# Altium footprint library QFN24-SPE-LTC3605.PcbLib: 1 footprints
Each footprint in its own frame and in the unit in brackets; x right, y up, seen from the top. Pads: shape width x height; smd on the part's side, far side on the other; paste and mask are expansions set on the pad; w line width, h text height; cw(c..) or ccw(c..) is an arc to the next point about the centre after c.
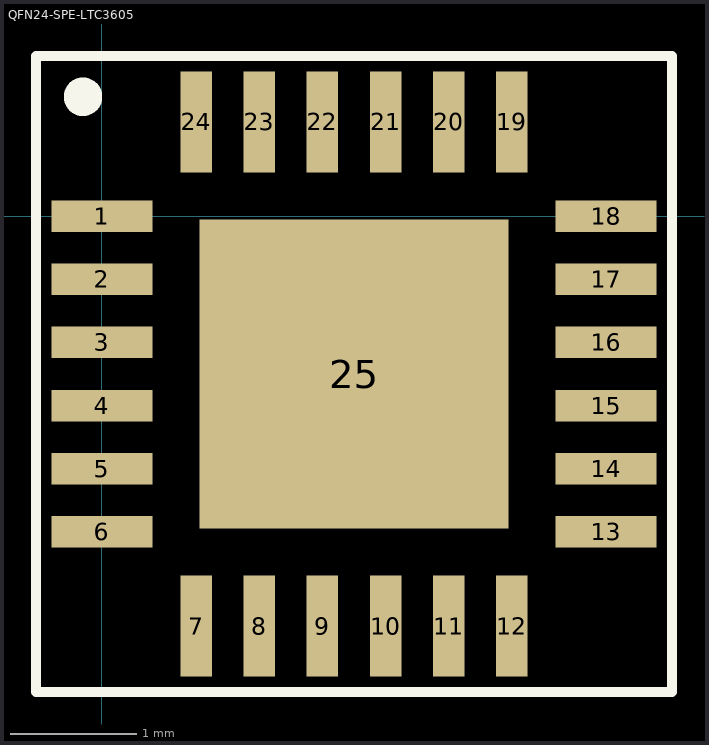
[diagram p0: the footprint, top view; thin cyan lines are the x and y axes]

## QFN24-SPE-LTC3605 [mm]
height 0.75
pads (25):
  rect 0.8x0.25 smd mask+0.07: 1(0,0) 2(0,-0.5) 3(0,-1) 4(0,-1.5) 5(0,-2) 6(0,-2.5) 13(4,-2.5) 14(4,-2) 15(4,-1.5) 16(4,-1) 17(4,-0.5) 18(4,0)
  rect 0.25x0.8 smd mask+0.07: 7(0.75,-3.25) 8(1.25,-3.25) 9(1.75,-3.25) 10(2.25,-3.25) 11(2.75,-3.25) 12(3.25,-3.25) 19(3.25,0.75) 20(2.75,0.75) 21(2.25,0.75) 22(1.75,0.75) 23(1.25,0.75) 24(0.75,0.75)
  rect 2.45x2.45 smd paste-2 mask+0.07: 25(2,-1.25)
Top Overlay:
  circle w0.254: c-0.15,0.95 r0.025
  lines w0.08: -0.525,-3.775 -0.525,1.275 4.525,1.275 4.525,-3.775 -0.475,-3.775 -0.525,-3.775
Top Paste:
  region: 3.15,-1.4 2.15,-1.4 2.15,-2.4 3.15,-2.4
  region: 1.85,-2.4 1.85,-1.4 0.85,-1.4 0.85,-2.4
  region: 2.15,-0.1 2.15,-1.1 3.15,-1.1 3.15,-0.1
  rectangle: 0.85,-1.1 1.85,-0.1
3D body: height 0.9, standoff 0, extent 0,-3.252 4.004,0.752